# Altium footprint library ELKO13_THT.PcbLib: 1 footprints
Each footprint in its own frame and in the unit in brackets; x right, y up, seen from the top. Pads: shape width x height; smd on the part's side, far side on the other; paste and mask are expansions set on the pad; w line width, h text height; cw(c..) or ccw(c..) is an arc to the next point about the centre after c.
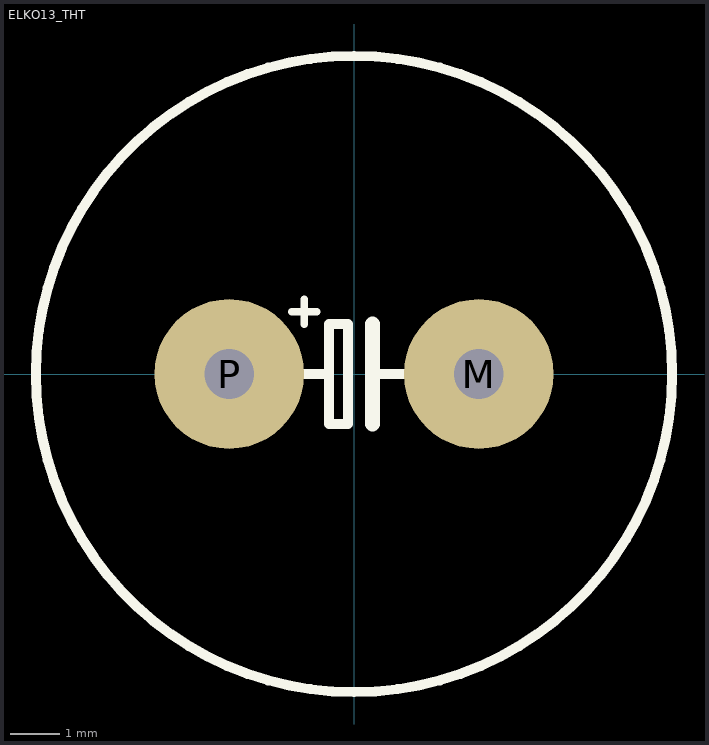
[diagram p0: the footprint, top view; thin cyan lines are the x and y axes]

## ELKO13_THT [mil]
height 1035.43
pads (2):
  round 120 hole 40: M(100,0) P(-100,0)
Top Overlay:
  circle w8: c0,0 r255
  lines w6: -50,50 -30,50 ; -40,40 -40,60
  lines w8: -100,0 -20,0 ; 15,0 100,0 ; -20,-40 -5,-40 -5,40 -20,40 -20,-40
  lines w12: 15,-40 15,40
3D body: height 1035.43, standoff 0, extent -255.38,-255.38 255.38,255.38